# EAGLE library part KS8999 (library ks8999)
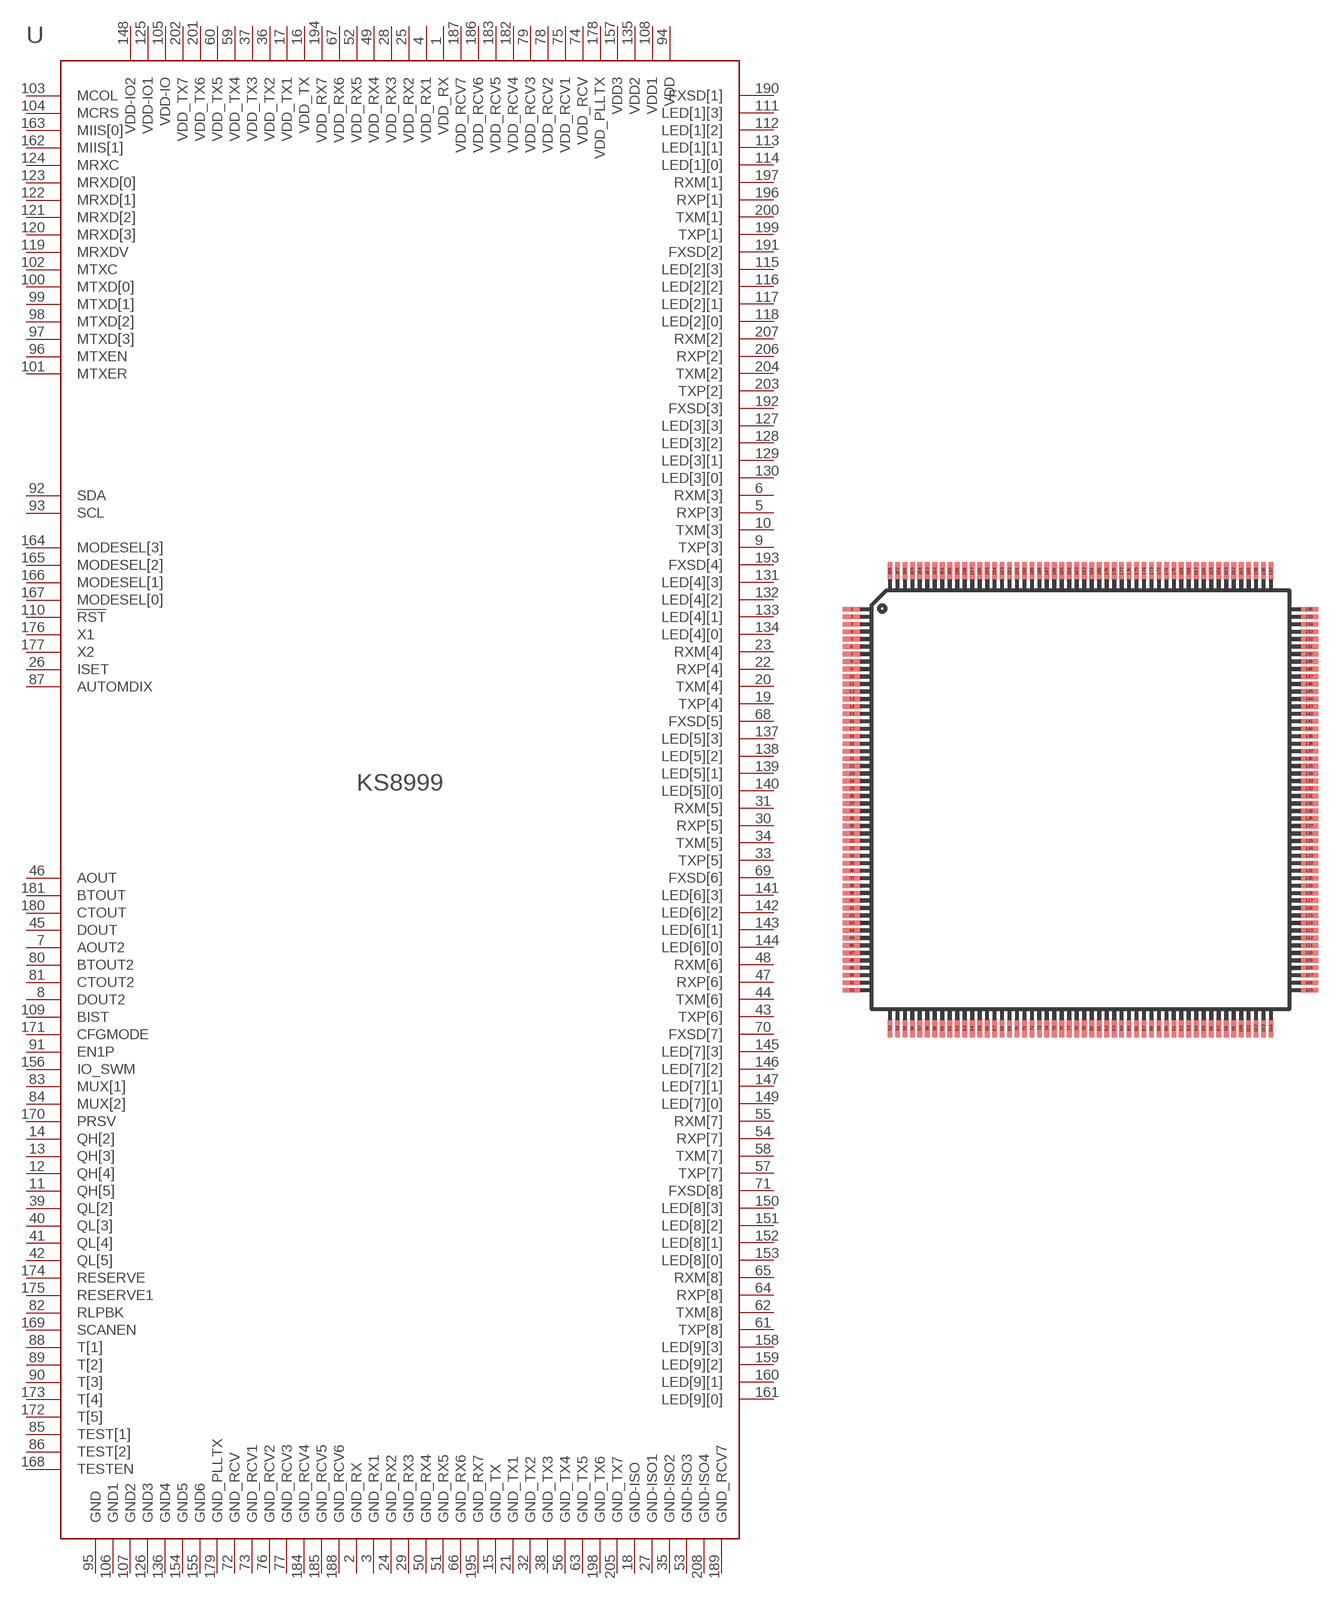
[diagram p0: symbol with the pads of PQFP208; footprint PQFP208]

Designator prefix U

## KS8999  [PQFP208]
1  VDD_RX  pwr
2  GND_RX  pwr
3  GND_RX1  pwr
4  VDD_RX1  pwr
5  RXP[3]
6  RXM[3]
7  AOUT2
8  DOUT2
9  TXP[3]
10  TXM[3]
11  QH[5]
12  QH[4]
13  QH[3]
14  QH[2]
15  GND_TX  pwr
16  VDD_TX  pwr
17  VDD_TX1  pwr
18  GND-ISO  pwr
19  TXP[4]
20  TXM[4]
21  GND_TX1  pwr
22  RXP[4]
23  RXM[4]
24  GND_RX2  pwr
25  VDD_RX2  pwr
26  ISET
27  GND-ISO1  pwr
28  VDD_RX3  pwr
29  GND_RX3  pwr
30  RXP[5]
31  RXM[5]
32  GND_TX2  pwr
33  TXP[5]
34  TXM[5]
35  GND-ISO2  pwr
36  VDD_TX2  pwr
37  VDD_TX3  pwr
38  GND_TX3  pwr
39  QL[2]
40  QL[3]
41  QL[4]
42  QL[5]
43  TXP[6]
44  TXM[6]
45  DOUT
46  AOUT
47  RXP[6]
48  RXM[6]
49  VDD_RX4  pwr
50  GND_RX4  pwr
51  GND_RX5  pwr
52  VDD_RX5  pwr
53  GND-ISO3  pwr
54  RXP[7]
55  RXM[7]
56  GND_TX4  pwr
57  TXP[7]
58  TXM[7]
59  VDD_TX4  pwr
60  VDD_TX5  pwr
61  TXP[8]
62  TXM[8]
63  GND_TX5  pwr
64  RXP[8]
65  RXM[8]
66  GND_RX6  pwr
67  VDD_RX6  pwr
68  FXSD[5]
69  FXSD[6]
70  FXSD[7]
71  FXSD[8]
72  GND_RCV  pwr
73  GND_RCV1  pwr
74  VDD_RCV  pwr
75  VDD_RCV1  pwr
76  GND_RCV2  pwr
77  GND_RCV3  pwr
78  VDD_RCV2  pwr
79  VDD_RCV3  pwr
80  BTOUT2
81  CTOUT2
82  RLPBK
83  MUX[1]
84  MUX[2]
85  TEST[1]
86  TEST[2]
87  AUTOMDIX
88  T[1]
89  T[2]
90  T[3]
91  EN1P
92  SDA
93  SCL
94  VDD  pwr
95  GND  pwr
96  MTXEN
97  MTXD[3]
98  MTXD[2]
99  MTXD[1]
100  MTXD[0]
101  MTXER
102  MTXC
103  MCOL
104  MCRS
105  VDD-IO  pwr
106  GND1  pwr
107  GND2  pwr
108  VDD1  pwr
109  BIST
110  !RST
111  LED[1][3]
112  LED[1][2]
113  LED[1][1]
114  LED[1][0]
115  LED[2][3]
116  LED[2][2]
117  LED[2][1]
118  LED[2][0]
119  MRXDV
120  MRXD[3]
121  MRXD[2]
122  MRXD[1]
123  MRXD[0]
124  MRXC
125  VDD-IO1  pwr
126  GND3  pwr
127  LED[3][3]
128  LED[3][2]
129  LED[3][1]
130  LED[3][0]
131  LED[4][3]
132  LED[4][2]
133  LED[4][1]
134  LED[4][0]
135  VDD2  pwr
136  GND4  pwr
137  LED[5][3]
138  LED[5][2]
139  LED[5][1]
140  LED[5][0]
141  LED[6][3]
142  LED[6][2]
143  LED[6][1]
144  LED[6][0]
145  LED[7][3]
146  LED[7][2]
147  LED[7][1]
148  VDD-IO2  pwr
149  LED[7][0]
150  LED[8][3]
151  LED[8][2]
152  LED[8][1]
153  LED[8][0]
154  GND5  pwr
155  GND6  pwr
156  IO_SWM
157  VDD3  pwr
158  LED[9][3]
159  LED[9][2]
160  LED[9][1]
161  LED[9][0]
162  MIIS[1]
163  MIIS[0]
164  MODESEL[3]
165  MODESEL[2]
166  MODESEL[1]
167  MODESEL[0]
168  TESTEN
169  SCANEN
170  PRSV
171  CFGMODE
172  T[5]
173  T[4]
174  RESERVE
175  RESERVE1
176  X1
177  X2
178  VDD_PLLTX  pwr
179  GND_PLLTX  pwr
180  CTOUT
181  BTOUT
182  VDD_RCV4  pwr
183  VDD_RCV5  pwr
184  GND_RCV4  pwr
185  GND_RCV5  pwr
186  VDD_RCV6  pwr
187  VDD_RCV7  pwr
188  GND_RCV6  pwr
189  GND_RCV7  pwr
190  FXSD[1]
191  FXSD[2]
192  FXSD[3]
193  FXSD[4]
194  VDD_RX7  pwr
195  GND_RX7  pwr
196  RXP[1]
197  RXM[1]
198  GND_TX6  pwr
199  TXP[1]
200  TXM[1]
201  VDD_TX6  pwr
202  VDD_TX7  pwr
203  TXP[2]
204  TXM[2]
205  GND_TX7  pwr
206  RXP[2]
207  RXM[2]
208  GND-ISO4  pwr

## Footprint PQFP208 (pad centres in mm)
smd 1.2 x 0.32: 1 -15.3,12.75; 2 -15.3,12.25; 3 -15.3,11.75; 4 -15.3,11.25; 5 -15.3,10.75; 6 -15.3,10.25; 7 -15.3,9.75; 8 -15.3,9.25; 9 -15.3,8.75; 10 -15.3,8.25; 11 -15.3,7.75; 12 -15.3,7.25; 13 -15.3,6.75; 14 -15.3,6.25; 15 -15.3,5.75; 16 -15.3,5.25; 17 -15.3,4.75; 18 -15.3,4.25; 19 -15.3,3.75; 20 -15.3,3.25; 21 -15.3,2.75; 22 -15.3,2.25; 23 -15.3,1.75; 24 -15.3,1.25; 25 -15.3,0.75; 26 -15.3,0.25; 27 -15.3,-0.25; 28 -15.3,-0.75; 29 -15.3,-1.25; 30 -15.3,-1.75; 31 -15.3,-2.25; 32 -15.3,-2.75; 33 -15.3,-3.25; 34 -15.3,-3.75; 35 -15.3,-4.25; 36 -15.3,-4.75; 37 -15.3,-5.25; 38 -15.3,-5.75; 39 -15.3,-6.25; 40 -15.3,-6.75; 41 -15.3,-7.25; 42 -15.3,-7.75; 43 -15.3,-8.25; 44 -15.3,-8.75; 45 -15.3,-9.25; 46 -15.3,-9.75; 47 -15.3,-10.25; 48 -15.3,-10.75; 49 -15.3,-11.25; 50 -15.3,-11.75; 51 -15.3,-12.25; 52 -15.3,-12.75; 105 15.3,-12.75; 106 15.3,-12.25; 107 15.3,-11.75; 108 15.3,-11.25; 109 15.3,-10.75; 110 15.3,-10.25; 111 15.3,-9.75; 112 15.3,-9.25; 113 15.3,-8.75; 114 15.3,-8.25; 115 15.3,-7.75; 116 15.3,-7.25; 117 15.3,-6.75; 118 15.3,-6.25; 119 15.3,-5.75; 120 15.3,-5.25; 121 15.3,-4.75; 122 15.3,-4.25; 123 15.3,-3.75; 124 15.3,-3.25; 125 15.3,-2.75; 126 15.3,-2.25; 127 15.3,-1.75; 128 15.3,-1.25; 129 15.3,-0.75; 130 15.3,-0.25; 131 15.3,0.25; 132 15.3,0.75; 133 15.3,1.25; 134 15.3,1.75; 135 15.3,2.25; 136 15.3,2.75; 137 15.3,3.25; 138 15.3,3.75; 139 15.3,4.25; 140 15.3,4.75; 141 15.3,5.25; 142 15.3,5.75; 143 15.3,6.25; 144 15.3,6.75; 145 15.3,7.25; 146 15.3,7.75; 147 15.3,8.25; 148 15.3,8.75; 149 15.3,9.25; 150 15.3,9.75; 151 15.3,10.25; 152 15.3,10.75; 153 15.3,11.25; 154 15.3,11.75; 155 15.3,12.25; 156 15.3,12.75
smd 0.32 x 1.2: 53 -12.75,-15.3; 54 -12.25,-15.3; 55 -11.75,-15.3; 56 -11.25,-15.3; 57 -10.75,-15.3; 58 -10.25,-15.3; 59 -9.75,-15.3; 60 -9.25,-15.3; 61 -8.75,-15.3; 62 -8.25,-15.3; 63 -7.75,-15.3; 64 -7.25,-15.3; 65 -6.75,-15.3; 66 -6.25,-15.3; 67 -5.75,-15.3; 68 -5.25,-15.3; 69 -4.75,-15.3; 70 -4.25,-15.3; 71 -3.75,-15.3; 72 -3.25,-15.3; 73 -2.75,-15.3; 74 -2.25,-15.3; 75 -1.75,-15.3; 76 -1.25,-15.3; 77 -0.75,-15.3; 78 -0.25,-15.3; 79 0.25,-15.3; 80 0.75,-15.3; 81 1.25,-15.3; 82 1.75,-15.3; 83 2.25,-15.3; 84 2.75,-15.3; 85 3.25,-15.3; 86 3.75,-15.3; 87 4.25,-15.3; 88 4.75,-15.3; 89 5.25,-15.3; 90 5.75,-15.3; 91 6.25,-15.3; 92 6.75,-15.3; 93 7.25,-15.3; 94 7.75,-15.3; 95 8.25,-15.3; 96 8.75,-15.3; 97 9.25,-15.3; 98 9.75,-15.3; 99 10.25,-15.3; 100 10.75,-15.3; 101 11.25,-15.3; 102 11.75,-15.3; 103 12.25,-15.3; 104 12.75,-15.3; 157 12.75,15.3; 158 12.25,15.3; 159 11.75,15.3; 160 11.25,15.3; 161 10.75,15.3; 162 10.25,15.3; 163 9.75,15.3; 164 9.25,15.3; 165 8.75,15.3; 166 8.25,15.3; 167 7.75,15.3; 168 7.25,15.3; 169 6.75,15.3; 170 6.25,15.3; 171 5.75,15.3; 172 5.25,15.3; 173 4.75,15.3; 174 4.25,15.3; 175 3.75,15.3; 176 3.25,15.3; 177 2.75,15.3; 178 2.25,15.3; 179 1.75,15.3; 180 1.25,15.3; 181 0.75,15.3; 182 0.25,15.3; 183 -0.25,15.3; 184 -0.75,15.3; 185 -1.25,15.3; 186 -1.75,15.3; 187 -2.25,15.3; 188 -2.75,15.3; 189 -3.25,15.3; 190 -3.75,15.3; 191 -4.25,15.3; 192 -4.75,15.3; 193 -5.25,15.3; 194 -5.75,15.3; 195 -6.25,15.3; 196 -6.75,15.3; 197 -7.25,15.3; 198 -7.75,15.3; 199 -8.25,15.3; 200 -8.75,15.3; 201 -9.25,15.3; 202 -9.75,15.3; 203 -10.25,15.3; 204 -10.75,15.3; 205 -11.25,15.3; 206 -11.75,15.3; 207 -12.25,15.3; 208 -12.75,15.3